# Altium footprint library WR-WTB_1.00mm.PcbLib: 14 footprints
Each footprint in its own frame and in the unit in brackets; x right, y up, seen from the top. Pads: shape width x height; smd on the part's side, far side on the other; paste and mask are expansions set on the pad; w line width, h text height; cw(c..) or ccw(c..) is an arc to the next point about the centre after c.
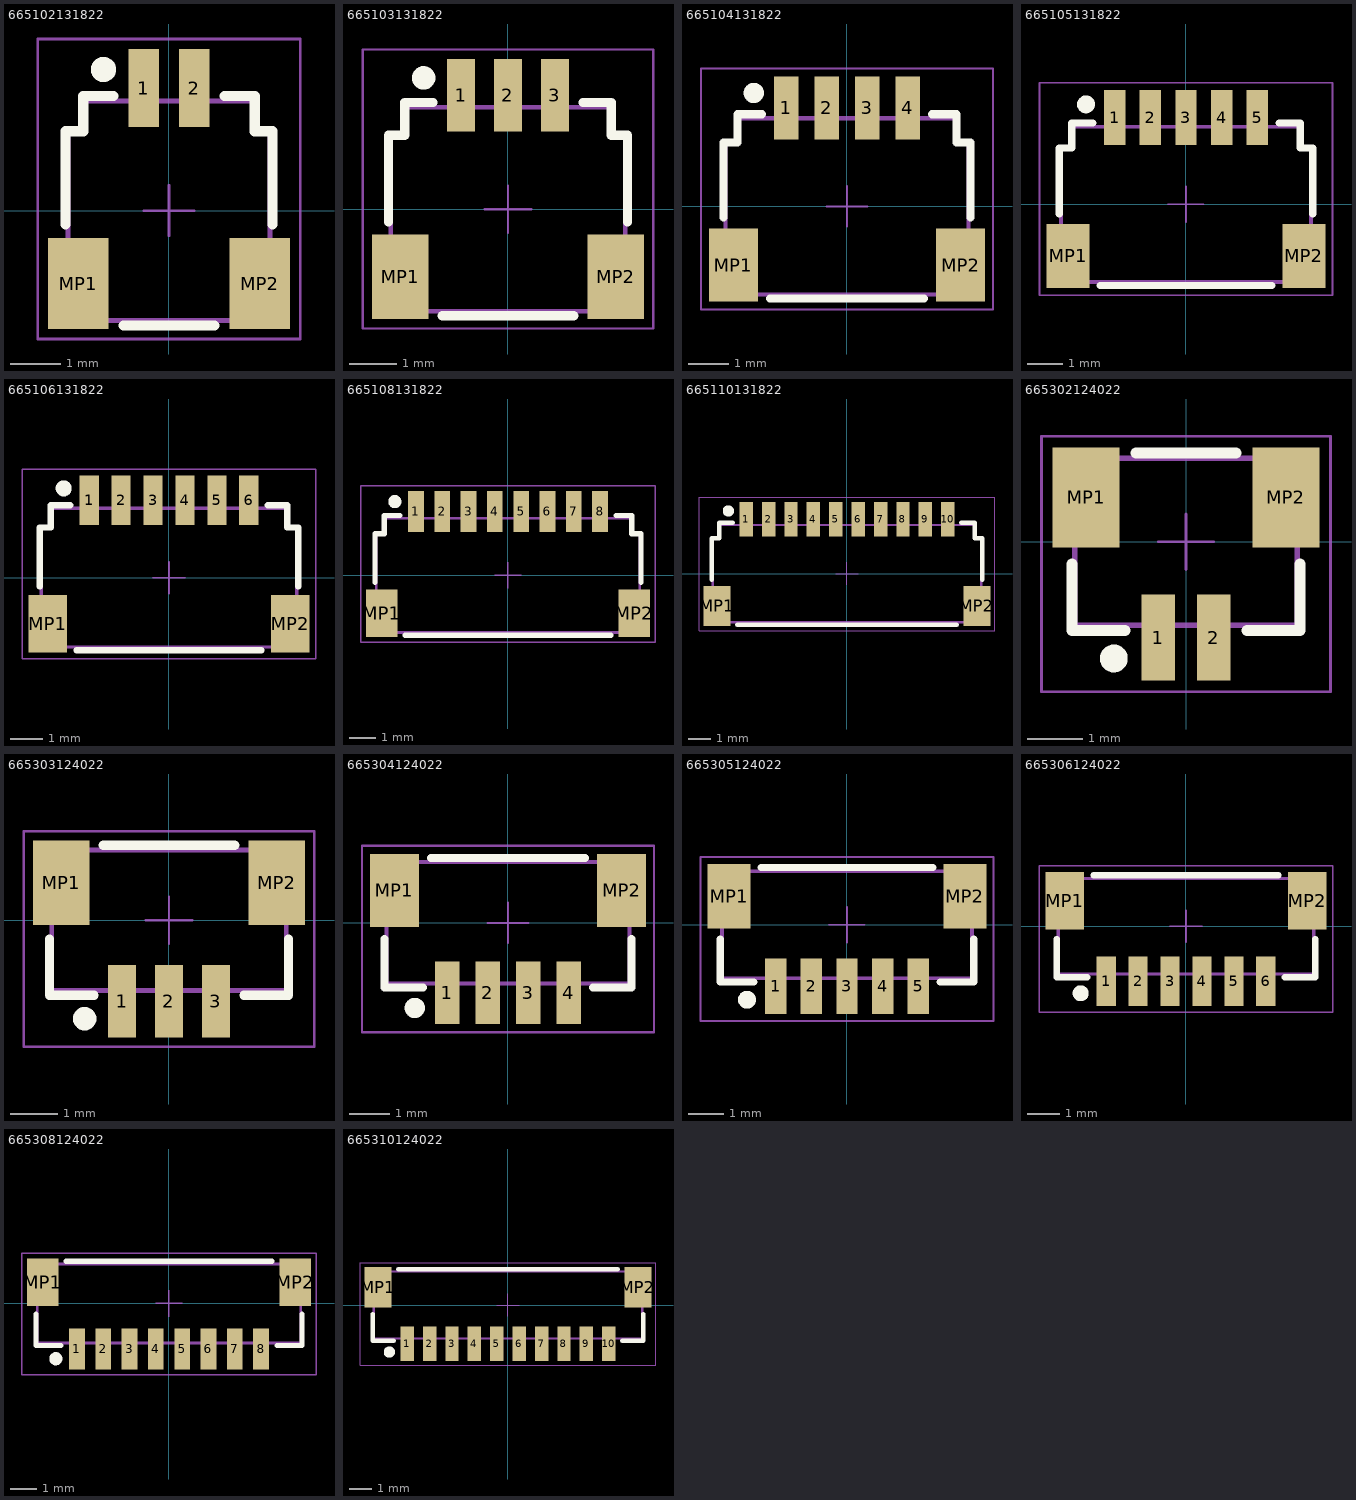
[diagram p0: the footprints below, top view; thin cyan lines are the x and y axes]

## 665102131822 [mm] "1.00 mm SMT Male Horizontal Shrouded, 2p"
height 3.1
pads (4):
  rect 0.6x1.55 smd: 1(-0.5,2.43) 2(0.5,2.43)
  rect 1.2x1.8 smd: MP1(-1.8,-1.445) MP2(1.8,-1.445)
Top Overlay:
  circle w0.25: c-1.3,2.8 r0.125
  lines w0.2: -2.05,-0.275 -2.05,1.575 -1.7,1.575 -1.7,2.275 -1.1,2.275 ; -0.9,-2.275 0.9,-2.275 ; 1.1,2.275 1.7,2.275 1.7,1.575 2.05,1.575 2.05,-0.275
Mechanical 13:
  lines w0.1: -2,-2.175 -2,1.575 -1.7,1.575 -1.7,2.175 1.7,2.175 1.7,1.575 2,1.575 2,-2.175 -2,-2.175
Mechanical 15:
  lines w0.05: -0.5,0 0.5,0 ; 0,-0.5 0,0.5 ; -2.6,-2.545 -2.6,3.405 2.6,3.405 2.6,-2.545 -2.6,-2.545
3D body "665102131822.stp": height 3.09, standoff -0.01, extent -2,-2.175 2,2.825

## 665103131822 [mm] "1.00 mm SMT Male Horizontal Shrouded, 3p"
height 3.1
pads (5):
  rect 0.6x1.55 smd: 1(-1,2.43) 2(0,2.43) 3(1,2.43)
  rect 1.2x1.8 smd: MP1(-2.3,-1.445) MP2(2.3,-1.445)
Top Overlay:
  circle w0.25: c-1.8,2.8 r0.125
  lines w0.2: -2.55,-0.275 -2.55,1.575 -2.2,1.575 -2.2,2.275 -1.6,2.275 ; -1.4,-2.275 1.4,-2.275 ; 1.6,2.275 2.2,2.275 2.2,1.575 2.55,1.575 2.55,-0.275
Mechanical 13:
  lines w0.1: -2.5,-2.175 2.5,-2.175 2.5,1.575 2.2,1.575 2.2,2.175 -2.2,2.175 -2.2,1.575 -2.5,1.575 -2.5,-2.175
Mechanical 15:
  lines w0.05: -0.5,0 0.5,0 ; 0,-0.5 0,0.5 ; -3.1,-2.545 3.1,-2.545 3.1,3.405 -3.1,3.405 -3.1,-2.545
3D body "665103131822.stp": height 3.09, standoff -0.01, extent -2.5,-2.175 2.5,2.825

## 665104131822 [mm] "1.00 mm SMT Male Horizontal Shrouded, 4p"
height 3.1
pads (6):
  rect 0.6x1.55 smd: 1(-1.5,2.43) 2(-0.5,2.43) 3(0.5,2.43) 4(1.5,2.43)
  rect 1.2x1.8 smd: MP1(-2.8,-1.445) MP2(2.8,-1.445)
Top Overlay:
  circle w0.25: c-2.3,2.8 r0.125
  lines w0.2: -3.05,-0.275 -3.05,1.575 -2.7,1.575 -2.7,2.275 -2.1,2.275 ; -1.9,-2.275 1.9,-2.275 ; 2.1,2.275 2.7,2.275 2.7,1.575 3.05,1.575 3.05,-0.275
Mechanical 13:
  lines w0.1: -3,-2.175 -3,1.575 -2.7,1.575 -2.7,2.175 2.7,2.175 2.7,1.575 3,1.575 3,-2.175 -3,-2.175
Mechanical 15:
  lines w0.05: -0.5,0 0.5,0 ; 0,-0.5 0,0.5 ; -3.6,-2.545 -3.6,3.405 3.6,3.405 3.6,-2.545 -3.6,-2.545
3D body "665104131822.stp": height 3.09, standoff -0.01, extent -3,-2.175 3,2.825

## 665105131822 [mm] "1.00 mm SMT Male Horizontal Shrouded, 5p"
height 3.1
pads (7):
  rect 0.6x1.55 smd: 1(-2,2.43) 2(-1,2.43) 3(0,2.43) 4(1,2.43) 5(2,2.43)
  rect 1.2x1.8 smd: MP1(-3.3,-1.445) MP2(3.3,-1.445)
Top Overlay:
  circle w0.25: c-2.8,2.8 r0.125
  lines w0.2: -3.55,-0.275 -3.55,1.575 -3.2,1.575 -3.2,2.275 -2.6,2.275 ; -2.4,-2.275 2.4,-2.275 ; 2.6,2.275 3.2,2.275 3.2,1.575 3.55,1.575 3.55,-0.275
Mechanical 13:
  lines w0.1: -3.5,-2.175 -3.5,1.575 -3.2,1.575 -3.2,2.175 3.2,2.175 3.2,1.575 3.5,1.575 3.5,-2.175 -3.5,-2.175
Mechanical 15:
  lines w0.05: -0.5,0 0.5,0 ; 0,-0.5 0,0.5 ; -4.1,-2.545 -4.1,3.405 4.1,3.405 4.1,-2.545 -4.1,-2.545
3D body "665105131822.stp": height 3.09, standoff -0.01, extent -3.5,-2.175 3.5,2.825

## 665106131822 [mm] "1.00 mm SMT Male Horizontal Shrouded, 6p"
height 3.1
pads (8):
  rect 0.6x1.55 smd: 1(-2.5,2.43) 2(-1.5,2.43) 3(-0.5,2.43) 4(0.5,2.43) 5(1.5,2.43) 6(2.5,2.43)
  rect 1.2x1.8 smd: MP1(-3.8,-1.445) MP2(3.8,-1.445)
Top Overlay:
  circle w0.25: c-3.3,2.8 r0.125
  lines w0.2: -4.05,-0.275 -4.05,1.575 -3.7,1.575 -3.7,2.275 -3.1,2.275 ; -2.9,-2.275 2.9,-2.275 ; 3.1,2.275 3.7,2.275 3.7,1.575 4.05,1.575 4.05,-0.275
Mechanical 13:
  lines w0.1: -4,-2.175 -4,1.575 -3.7,1.575 -3.7,2.175 3.7,2.175 3.7,1.575 4,1.575 4,-2.175 -4,-2.175
Mechanical 15:
  lines w0.05: -0.5,0 0.5,0 ; 0,-0.5 0,0.5 ; -4.6,-2.545 -4.6,3.405 4.6,3.405 4.6,-2.545 -4.6,-2.545
3D body "665106131822.stp": height 3.09, standoff -0.01, extent -4,-2.175 4,2.825

## 665108131822 [mm] "1.00 mm SMT Male Horizontal Shrouded, 8p"
height 3.1
pads (10):
  rect 0.6x1.55 smd: 1(-3.5,2.43) 2(-2.5,2.43) 3(-1.5,2.43) 4(-0.5,2.43) 5(0.5,2.43) 6(1.5,2.43) 7(2.5,2.43) 8(3.5,2.43)
  rect 1.2x1.8 smd: MP1(-4.8,-1.445) MP2(4.8,-1.445)
Top Overlay:
  circle w0.25: c-4.3,2.8 r0.125
  lines w0.2: -5.05,-0.275 -5.05,1.575 -4.7,1.575 -4.7,2.275 -4.1,2.275 ; -3.9,-2.275 3.9,-2.275 ; 4.1,2.275 4.7,2.275 4.7,1.575 5.05,1.575 5.05,-0.275
Mechanical 13:
  lines w0.1: -5,-2.175 5,-2.175 5,1.575 4.7,1.575 4.7,2.175 -4.7,2.175 -4.7,1.575 -5,1.575 -5,-2.175
Mechanical 15:
  lines w0.05: -0.5,0 0.5,0 ; 0,-0.5 0,0.5 ; -5.6,-2.545 5.6,-2.545 5.6,3.405 -5.6,3.405 -5.6,-2.545
3D body "665108131822.stp": height 3.09, standoff -0.01, extent -5,-2.175 5,2.825

## 665110131822 [mm] "1.00 mm SMT Male Horizontal Shrouded, 10p"
height 3.1
pads (12):
  rect 0.6x1.55 smd: 1(-4.5,2.43) 2(-3.5,2.43) 3(-2.5,2.43) 4(-1.5,2.43) 5(-0.5,2.43) 6(0.5,2.43) 7(1.5,2.43) 8(2.5,2.43) 9(3.5,2.43) 10(4.5,2.43)
  rect 1.2x1.8 smd: MP1(-5.8,-1.445) MP2(5.8,-1.445)
Top Overlay:
  circle w0.25: c-5.3,2.8 r0.125
  lines w0.2: -6.05,-0.275 -6.05,1.575 -5.7,1.575 -5.7,2.275 -5.1,2.275 ; -4.9,-2.275 4.9,-2.275 ; 5.1,2.275 5.7,2.275 5.7,1.575 6.05,1.575 6.05,-0.275
Mechanical 13:
  lines w0.1: -6,-2.175 -6,1.575 -5.7,1.575 -5.7,2.175 5.7,2.175 5.7,1.575 6,1.575 6,-2.175 -6,-2.175
Mechanical 15:
  lines w0.05: -0.5,0 0.5,0 ; 0,-0.5 0,0.5 ; -6.6,-2.545 -6.6,3.405 6.6,3.405 6.6,-2.545 -6.6,-2.545
3D body "665110131822.stp": height 3.09, standoff -0.01, extent -6,-2.175 6,2.825

## 665302124022 [mm] "1.00 mm SMT Male Vertical Shrouded Header, 2p"
height 3.7
pads (4):
  rect 0.6x1.55 smd: 1(-0.5,-1.725) 2(0.5,-1.725)
  rect 1.2x1.8 smd: MP1(-1.8,0.8) MP2(1.8,0.8)
Top Overlay:
  circle w0.25: c-1.3,-2.1 r0.125
  lines w0.2: -2.05,-0.4 -2.05,-1.6 -1.1,-1.6 ; -0.9,1.6 0.9,1.6 ; 1.1,-1.6 2.05,-1.6 2.05,-0.4
Mechanical 13:
  lines w0.1: -2,-1.5 -2,1.5 2,1.5 2,-1.5 -2,-1.5
Mechanical 15:
  lines w0.05: -0.5,0 0.5,0 ; 0,-0.5 0,0.5 ; -2.6,-2.7 -2.6,1.9 2.6,1.9 2.6,-2.7 -2.6,-2.7
3D body "665302124022.stp": height 4.79, standoff -0.01, extent -2,-2.195 2,1.765

## 665303124022 [mm] "1.00 mm SMT Male Vertical Shrouded Header, 3p"
height 3.7
pads (5):
  rect 0.6x1.55 smd: 1(-1,-1.725) 2(0,-1.725) 3(1,-1.725)
  rect 1.2x1.8 smd: MP1(-2.3,0.8) MP2(2.3,0.8)
Top Overlay:
  circle w0.25: c-1.8,-2.1 r0.125
  lines w0.2: -2.55,-0.4 -2.55,-1.6 -1.6,-1.6 ; -1.4,1.6 1.4,1.6 ; 1.6,-1.6 2.55,-1.6 2.55,-0.4
Mechanical 13:
  lines w0.1: -2.5,-1.5 2.5,-1.5 2.5,1.5 -2.5,1.5 -2.5,-1.5
Mechanical 15:
  lines w0.05: -0.5,0 0.5,0 ; 0,-0.5 0,0.5 ; -3.1,-2.7 3.1,-2.7 3.1,1.9 -3.1,1.9 -3.1,-2.7
3D body "665303124022.stp": height 4.79, standoff -0.01, extent -2.5,-2.195 2.5,1.765

## 665304124022 [mm] "1.00 mm SMT Male Vertical Shrouded Header, 4p"
height 3.7
pads (6):
  rect 0.6x1.55 smd: 1(-1.5,-1.725) 2(-0.5,-1.725) 3(0.5,-1.725) 4(1.5,-1.725)
  rect 1.2x1.8 smd: MP1(-2.8,0.8) MP2(2.8,0.8)
Top Overlay:
  circle w0.25: c-2.3,-2.1 r0.125
  lines w0.2: -3.05,-0.4 -3.05,-1.6 -2.1,-1.6 ; -1.9,1.6 1.9,1.6 ; 2.1,-1.6 3.05,-1.6 3.05,-0.4
Mechanical 13:
  lines w0.1: -3,-1.5 -3,1.5 3,1.5 3,-1.5 -3,-1.5
Mechanical 15:
  lines w0.05: -0.5,0 0.5,0 ; 0,-0.5 0,0.5 ; -3.6,-2.7 -3.6,1.9 3.6,1.9 3.6,-2.7 -3.6,-2.7
3D body "665304124022.stp": height 4.79, standoff -0.01, extent -3,-2.195 3,1.765

## 665305124022 [mm] "1.00 mm SMT Male Vertical Shrouded Header, 5p"
height 3.7
pads (7):
  rect 0.6x1.55 smd: 1(-2,-1.725) 2(-1,-1.725) 3(0,-1.725) 4(1,-1.725) 5(2,-1.725)
  rect 1.2x1.8 smd: MP1(-3.3,0.8) MP2(3.3,0.8)
Top Overlay:
  circle w0.25: c-2.8,-2.1 r0.125
  lines w0.2: -3.55,-0.4 -3.55,-1.6 -2.6,-1.6 ; -2.4,1.6 2.4,1.6 ; 2.6,-1.6 3.55,-1.6 3.55,-0.4
Mechanical 13:
  lines w0.1: -3.5,-1.5 3.5,-1.5 3.5,1.5 -3.5,1.5 -3.5,-1.5
Mechanical 15:
  lines w0.05: -0.5,0 0.5,0 ; 0,-0.5 0,0.5 ; -4.1,-2.7 4.1,-2.7 4.1,1.9 -4.1,1.9 -4.1,-2.7
3D body "665305124022.stp": height 4.79, standoff -0.01, extent -3.5,-2.195 3.5,1.765

## 665306124022 [mm] "1.00 mm SMT Male Vertical Shrouded Header, 6p"
height 3.7
pads (8):
  rect 0.6x1.55 smd: 1(-2.5,-1.725) 2(-1.5,-1.725) 3(-0.5,-1.725) 4(0.5,-1.725) 5(1.5,-1.725) 6(2.5,-1.725)
  rect 1.2x1.8 smd: MP1(-3.8,0.8) MP2(3.8,0.8)
Top Overlay:
  circle w0.25: c-3.3,-2.1 r0.125
  lines w0.2: -4.05,-0.4 -4.05,-1.6 -3.1,-1.6 ; -2.9,1.6 2.9,1.6 ; 3.1,-1.6 4.05,-1.6 4.05,-0.4
Mechanical 13:
  lines w0.1: -4,-1.5 -4,1.5 4,1.5 4,-1.5 -4,-1.5
Mechanical 15:
  lines w0.05: -0.5,0 0.5,0 ; 0,-0.5 0,0.5 ; -4.6,-2.7 -4.6,1.9 4.6,1.9 4.6,-2.7 -4.6,-2.7
3D body "665306124022.stp": height 4.79, standoff -0.01, extent -4,-2.195 4,1.765

## 665308124022 [mm] "1.00 mm SMT Male Vertical Shrouded Header, 8p"
height 3.7
pads (10):
  rect 0.6x1.55 smd: 1(-3.5,-1.725) 2(-2.5,-1.725) 3(-1.5,-1.725) 4(-0.5,-1.725) 5(0.5,-1.725) 6(1.5,-1.725) 7(2.5,-1.725) 8(3.5,-1.725)
  rect 1.2x1.8 smd: MP1(-4.8,0.8) MP2(4.8,0.8)
Top Overlay:
  circle w0.25: c-4.3,-2.1 r0.125
  lines w0.2: -5.05,-0.4 -5.05,-1.6 -4.1,-1.6 ; -3.9,1.6 3.9,1.6 ; 4.1,-1.6 5.05,-1.6 5.05,-0.4
Mechanical 13:
  lines w0.1: -5,-1.5 5,-1.5 5,1.5 -5,1.5 -5,-1.5
Mechanical 15:
  lines w0.05: -0.5,0 0.5,0 ; 0,-0.5 0,0.5 ; -5.6,-2.7 5.6,-2.7 5.6,1.9 -5.6,1.9 -5.6,-2.7
3D body "665308124022.stp": height 4.79, standoff -0.01, extent -5,-2.195 5,1.765

## 665310124022 [mm] "1.00 mm SMT Male Vertical Shrouded Header, 10p"
height 3.7
pads (12):
  rect 0.6x1.55 smd: 1(-4.5,-1.725) 2(-3.5,-1.725) 3(-2.5,-1.725) 4(-1.5,-1.725) 5(-0.5,-1.725) 6(0.5,-1.725) 7(1.5,-1.725) 8(2.5,-1.725) 9(3.5,-1.725) 10(4.5,-1.725)
  rect 1.2x1.8 smd: MP1(-5.8,0.8) MP2(5.8,0.8)
Top Overlay:
  circle w0.25: c-5.3,-2.1 r0.125
  lines w0.2: -6.05,-0.4 -6.05,-1.6 -5.1,-1.6 ; -4.9,1.6 4.9,1.6 ; 5.1,-1.6 6.05,-1.6 6.05,-0.4
Mechanical 13:
  lines w0.1: -6,-1.5 -6,1.5 6,1.5 6,-1.5 -6,-1.5
Mechanical 15:
  lines w0.05: -0.5,0 0.5,0 ; 0,-0.5 0,0.5 ; -6.6,-2.7 -6.6,1.9 6.6,1.9 6.6,-2.7 -6.6,-2.7
3D body "665310124022.stp": height 4.79, standoff -0.01, extent -6,-2.195 6,1.765